# Altium footprint library JST ZE SMT 15POS.PcbLib: 1 footprints
Each footprint in its own frame and in the unit in brackets; x right, y up, seen from the top. Pads: shape width x height; smd on the part's side, far side on the other; paste and mask are expansions set on the pad; w line width, h text height; cw(c..) or ccw(c..) is an arc to the next point about the centre after c.
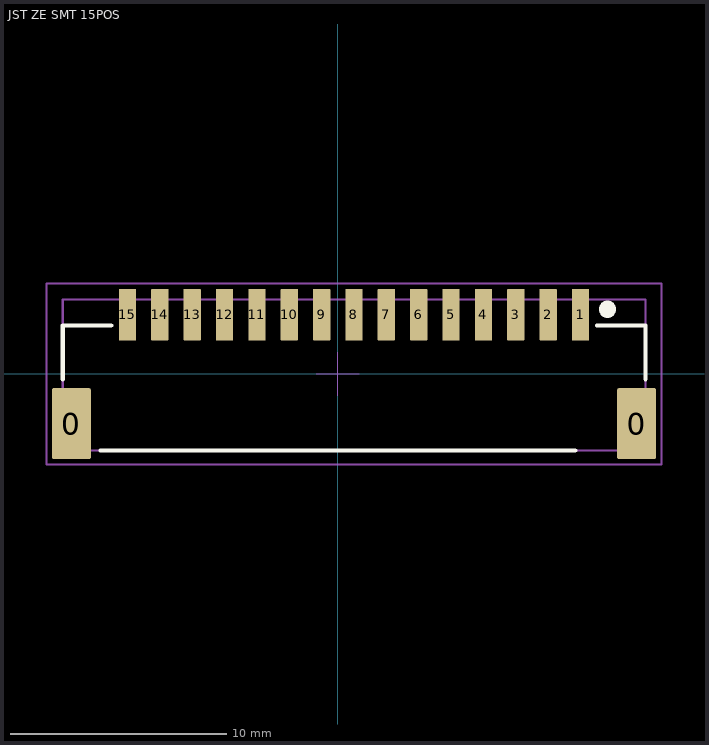
[diagram p0: the footprint, top view; thin cyan lines are the x and y axes]

## JST ZE SMT 15POS [mm] "15 POS HDR JST ZE"
pads (17):
  rrect10% 1.8x3.3 smd: 0(-12.35,-2.3) 0(13.85,-2.3)
  rrect10% 0.8x2.4 smd: 1(11.25,2.75) 2(9.75,2.75) 3(8.25,2.75) 4(6.75,2.75) 5(5.25,2.75) 6(3.75,2.75) 7(2.25,2.75) 8(0.75,2.75) 9(-0.75,2.75) 10(-2.25,2.75) 11(-3.75,2.75) 12(-5.25,2.75) 13(-6.75,2.75) 14(-8.25,2.75) 15(-9.75,2.75)
Top Overlay:
  circle w0.8: c12.5,3 r0
  lines w0.2: -12.75,-0.25 -12.75,2.25 -10.5,2.25 ; -11,-3.55 11,-3.55 ; 12.011,2.25 14.261,2.25 14.261,-0.25
Mechanical 13:
  lines w0.1: -12.75,-3.55 -12.75,3.45 14.261,3.45 14.261,-3.55 -12.75,-3.55
Mechanical 15:
  lines w0.05: 0,-1 0,0 ; 0,1 0,0 ; 1,0 0,0 ; 0,0 -1,0 0,0
  lines w0.1: 14.975,4.2 -13.5,4.2 -13.5,-4.2 15,-4.2 15,4.2
3D body "BM15B-ZESS-TBT.STEP": height 7.6, standoff 0, extent -12.75,-3.55 14.25,3.45